# Altium footprint library c3216_18.PcbLib: 1 footprints
Each footprint in its own frame and in the unit in brackets; x right, y up, seen from the top. Pads: shape width x height; smd on the part's side, far side on the other; paste and mask are expansions set on the pad; w line width, h text height; cw(c..) or ccw(c..) is an arc to the next point about the centre after c.
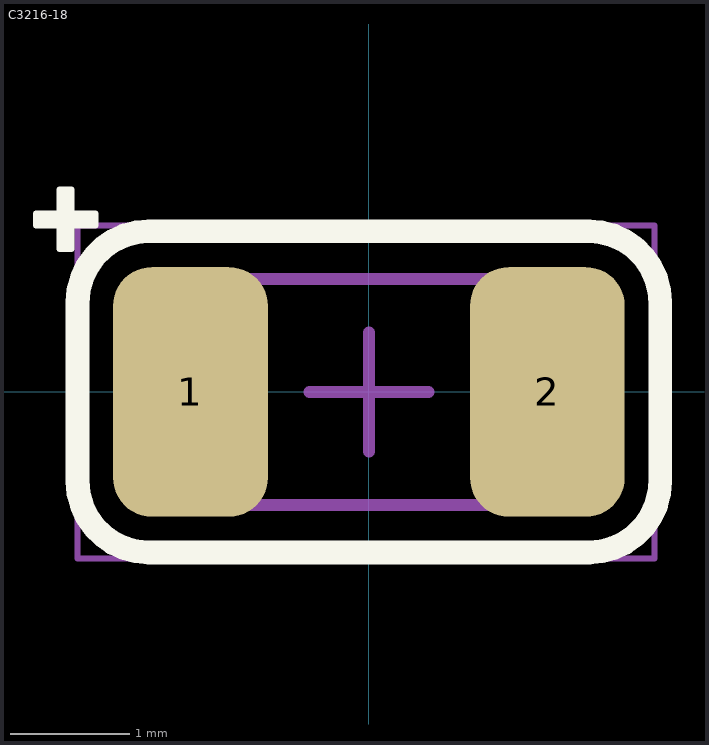
[diagram p0: the footprint, top view; thin cyan lines are the x and y axes]

## C3216-18 [mm] "Chip Tantalum Capacitor, 2-Leads, Body 3,20x1,60mm, IPC Medium Density"
height 1.8
pads (2):
  rrect50% 1.3x2.1 smd: 1(-1.5,0) 2(1.5,0)
Top Overlay:
  rectangle: -2.6,1.2 -2.5,1.7
  rectangle: -2.8,1.4 -2.3,1.5
  lines w0.05: -2.8,1.4 -2.6,1.4 -2.6,1.2 -2.5,1.2 -2.5,1.4 -2.3,1.4 -2.3,1.5 -2.5,1.5 -2.5,1.7 -2.6,1.7 -2.6,1.5 -2.8,1.5 -2.8,1.4
  lines w0.2: -2.45,-0.75 ccw(c-1.85,-0.75) -1.85,-1.35 1.85,-1.35 ccw(c1.85,-0.75) 2.45,-0.75 2.45,0.75 ccw(c1.85,0.75) 1.85,1.35 -1.85,1.35 ccw(c-1.85,0.75) -2.45,0.75 -2.45,-0.75
Top Comment:
  text ".Comment" at 1,1.5 h1.2
Top Designator:
  text ".Designator" at -0.5,1.5 h1.2
Top Component Outline:
  lines w0.1: -1.7,-0.95 -1.7,0.95 1.7,0.95 1.7,-0.95 -1.7,-0.95
Top Courtyard (Mech15):
  lines w0.05: -2.45,-1.4 -2.45,1.4 2.4,1.4 2.4,-1.4 -2.45,-1.4
  lines w0.1: -0.5,0 0.5,0 ; 0,-0.5 0,0.5
3D body "C3216-18.STEP": height 1.83, standoff 0.01, extent -1.702,-0.95 1.702,0.948